# Altium footprint library PcbLib1.PcbLib: 1 footprints
Each footprint in its own frame and in the unit in brackets; x right, y up, seen from the top. Pads: shape width x height; smd on the part's side, far side on the other; paste and mask are expansions set on the pad; w line width, h text height; cw(c..) or ccw(c..) is an arc to the next point about the centre after c.
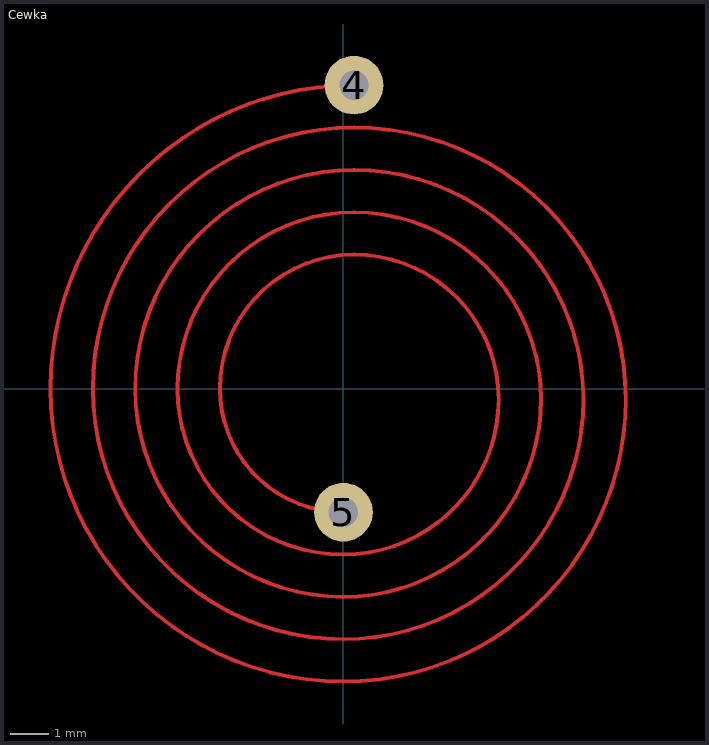
[diagram p0: the footprint, top view; thin cyan lines are the x and y axes]

## Cewka [mil]
pads (2):
  round 60 hole 30: 4(10.83,310.35) 5(0,-126.3)
Top Layer:
  lines w3.94: 0,-126.3 cw(c0,0) -126.3,0 cw(c10.83,0) 10.83,137.13 cw(c10.83,-10.83) 158.78,-10.83 cw(c0,-10.83) 0,-169.61 cw(c0,0) -169.61,0 cw(c10.83,0) 10.83,180.43 cw(c10.83,-10.83) 202.09,-10.83 cw(c0,-10.83) 0,-212.91 cw(c0,0) -212.91,0 cw(c10.83,0) 10.83,223.74 cw(c10.83,-10.83) 245.39,-10.83 cw(c0,-10.83) 0,-256.22 cw(c0,0) -256.22,0 cw(c10.83,0) 10.83,267.05 cw(c10.83,-10.83) 288.7,-10.83 cw(c0,-10.83) 0,-299.53 cw(c0,0) -299.53,0 cw(c10.83,0) 10.83,310.35